# Altium footprint library MicroSMD_50P_V.PcbLib: 85 footprints (part 5 of 7)
Each footprint in its own frame and in the unit in brackets; x right, y up, seen from the top. Pads: shape width x height; smd on the part's side, far side on the other; paste and mask are expansions set on the pad; w line width, h text height; cw(c..) or ccw(c..) is an arc to the next point about the centre after c.
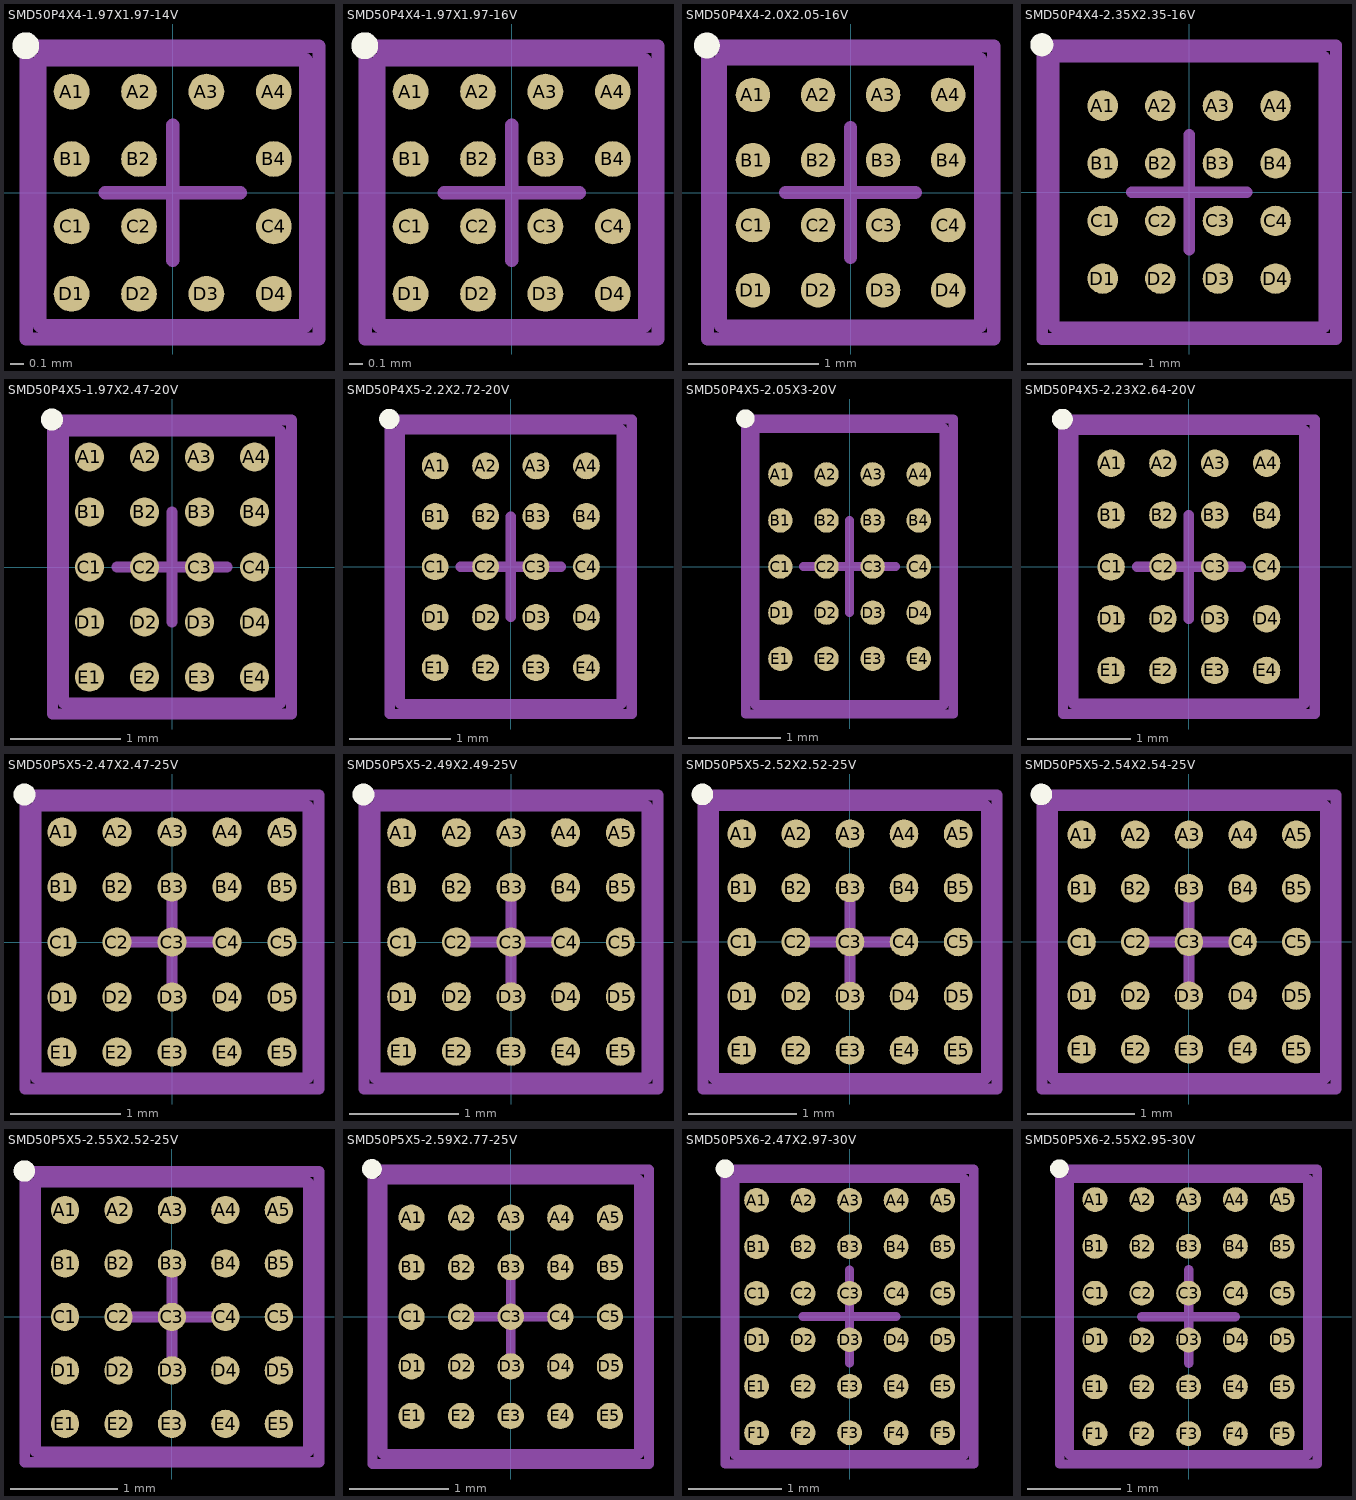
[diagram p4: the footprints below, top view; thin cyan lines are the x and y axes]

## SMD50P4X4-1.97X1.97-14V [mm] "Micro SMD, 14-Leads, Body 1.97x1.97mm, Pitch 0.5mm, NSC Recommended"
height 0.68
pads (14):
  round 0.265 smd paste-0.132 mask+0.05: A1(-0.75,0.75) A2(-0.25,0.75) A3(0.25,0.75) A4(0.75,0.75) B1(-0.75,0.25) B2(-0.25,0.25) B4(0.75,0.25) C1(-0.75,-0.25) C2(-0.25,-0.25) C4(0.75,-0.25) D1(-0.75,-0.75) D2(-0.25,-0.75) D3(0.25,-0.75) D4(0.75,-0.75)
Top Overlay:
  circle w0.1: c-1.09,1.09 r0.05
Top Paste:
  circle w0.05: c-0.175,-0.175 r0.025
  circle w0.05: c-0.325,-0.325 r0.025
  circle w0.05: c-0.325,-0.175 r0.025
  circle w0.05: c-0.175,-0.325 r0.025
  circle w0.05: c-0.175,0.325 r0.025
  circle w0.05: c-0.325,0.175 r0.025
  circle w0.05: c-0.325,0.325 r0.025
  circle w0.05: c-0.175,0.175 r0.025
  circle w0.05: c0.325,-0.85 r0.025
  circle w0.05: c0.175,-0.7 r0.025
  circle w0.05: c0.175,-0.85 r0.025
  circle w0.05: c0.325,-0.7 r0.025
  circle w0.05: c-0.175,-0.85 r0.025
  circle w0.05: c-0.325,-0.7 r0.025
  circle w0.05: c-0.325,-0.85 r0.025
  circle w0.05: c-0.175,-0.7 r0.025
  circle w0.05: c-0.85,-0.325 r0.025
  circle w0.05: c-0.7,-0.175 r0.025
  circle w0.05: c-0.85,-0.175 r0.025
  circle w0.05: c-0.7,-0.325 r0.025
  circle w0.05: c-0.85,0.175 r0.025
  circle w0.05: c-0.7,0.325 r0.025
  circle w0.05: c-0.85,0.325 r0.025
  circle w0.05: c-0.7,0.175 r0.025
  circle w0.05: c-0.325,0.85 r0.025
  circle w0.05: c-0.175,0.7 r0.025
  circle w0.05: c-0.175,0.85 r0.025
  circle w0.05: c-0.325,0.7 r0.025
  circle w0.05: c0.175,0.85 r0.025
  circle w0.05: c0.325,0.7 r0.025
  circle w0.05: c0.325,0.85 r0.025
  circle w0.05: c0.175,0.7 r0.025
  circle w0.05: c0.85,0.325 r0.025
  circle w0.05: c0.7,0.175 r0.025
  circle w0.05: c0.85,0.175 r0.025
  circle w0.05: c0.7,0.325 r0.025
  circle w0.05: c0.85,-0.175 r0.025
  circle w0.05: c0.7,-0.325 r0.025
  circle w0.05: c0.85,-0.325 r0.025
  circle w0.05: c0.7,-0.175 r0.025
  circle w0.05: c-0.7,0.7 r0.025
  circle w0.05: c-0.85,0.85 r0.025
  circle w0.05: c-0.7,0.85 r0.025
  circle w0.05: c-0.85,0.7 r0.025
  circle w0.05: c-0.7,-0.7 r0.025
  circle w0.05: c-0.85,-0.85 r0.025
  circle w0.05: c-0.85,-0.7 r0.025
  circle w0.05: c-0.7,-0.85 r0.025
  circle w0.05: c0.7,-0.7 r0.025
  circle w0.05: c0.85,-0.85 r0.025
  circle w0.05: c0.7,-0.85 r0.025
  circle w0.05: c0.85,-0.7 r0.025
  circle w0.05: c0.7,0.7 r0.025
  circle w0.05: c0.85,0.85 r0.025
  circle w0.05: c0.85,0.7 r0.025
  circle w0.05: c0.7,0.85 r0.025
  rectangle: -0.325,-0.375 -0.175,-0.325
  region: -0.375,-0.175 -0.375,-0.325 -0.325,-0.325 -0.325,-0.175
  region: -0.175,-0.125 -0.325,-0.125 -0.325,-0.175 -0.175,-0.175
  region: -0.125,-0.325 -0.125,-0.175 -0.175,-0.175 -0.175,-0.325
  region: -0.325,-0.175 -0.325,-0.325 -0.175,-0.325 -0.175,-0.175
  rectangle: -0.325,0.125 -0.175,0.175
  region: -0.375,0.325 -0.375,0.175 -0.325,0.175 -0.325,0.325
  region: -0.175,0.375 -0.325,0.375 -0.325,0.325 -0.175,0.325
  region: -0.125,0.175 -0.125,0.325 -0.175,0.325 -0.175,0.175
  region: -0.325,0.325 -0.325,0.175 -0.175,0.175 -0.175,0.325
  rectangle: 0.175,-0.7 0.325,-0.65
  region: 0.175,-0.85 0.175,-0.7 0.125,-0.7 0.125,-0.85
  region: 0.325,-0.85 0.175,-0.85 0.175,-0.9 0.325,-0.9
  region: 0.325,-0.7 0.325,-0.85 0.375,-0.85 0.375,-0.7
  region: 0.325,-0.85 0.325,-0.7 0.175,-0.7 0.175,-0.85
  rectangle: -0.325,-0.7 -0.175,-0.65
  region: -0.325,-0.85 -0.325,-0.7 -0.375,-0.7 -0.375,-0.85
  region: -0.175,-0.85 -0.325,-0.85 -0.325,-0.9 -0.175,-0.9
  region: -0.175,-0.7 -0.175,-0.85 -0.125,-0.85 -0.125,-0.7
  region: -0.175,-0.85 -0.175,-0.7 -0.325,-0.7 -0.325,-0.85
  region: -0.7,-0.175 -0.7,-0.325 -0.65,-0.325 -0.65,-0.175
  rectangle: -0.85,-0.175 -0.7,-0.125
  region: -0.85,-0.325 -0.85,-0.175 -0.9,-0.175 -0.9,-0.325
  region: -0.7,-0.325 -0.85,-0.325 -0.85,-0.375 -0.7,-0.375
  rectangle: -0.85,-0.325 -0.7,-0.175
  region: -0.7,0.325 -0.7,0.175 -0.65,0.175 -0.65,0.325
  rectangle: -0.85,0.325 -0.7,0.375
  region: -0.85,0.175 -0.85,0.325 -0.9,0.325 -0.9,0.175
  region: -0.7,0.175 -0.85,0.175 -0.85,0.125 -0.7,0.125
  rectangle: -0.85,0.175 -0.7,0.325
  region: -0.175,0.7 -0.325,0.7 -0.325,0.65 -0.175,0.65
  region: -0.175,0.85 -0.175,0.7 -0.125,0.7 -0.125,0.85
  rectangle: -0.325,0.85 -0.175,0.9
  region: -0.325,0.7 -0.325,0.85 -0.375,0.85 -0.375,0.7
  region: -0.325,0.85 -0.325,0.7 -0.175,0.7 -0.175,0.85
  region: 0.325,0.7 0.175,0.7 0.175,0.65 0.325,0.65
  region: 0.325,0.85 0.325,0.7 0.375,0.7 0.375,0.85
  rectangle: 0.175,0.85 0.325,0.9
  region: 0.175,0.7 0.175,0.85 0.125,0.85 0.125,0.7
  region: 0.175,0.85 0.175,0.7 0.325,0.7 0.325,0.85
  region: 0.7,0.175 0.7,0.325 0.65,0.325 0.65,0.175
  region: 0.85,0.175 0.7,0.175 0.7,0.125 0.85,0.125
  region: 0.85,0.325 0.85,0.175 0.9,0.175 0.9,0.325
  rectangle: 0.7,0.325 0.85,0.375
  region: 0.85,0.325 0.7,0.325 0.7,0.175 0.85,0.175
  region: 0.7,-0.325 0.7,-0.175 0.65,-0.175 0.65,-0.325
  region: 0.85,-0.325 0.7,-0.325 0.7,-0.375 0.85,-0.375
  region: 0.85,-0.175 0.85,-0.325 0.9,-0.325 0.9,-0.175
  rectangle: 0.7,-0.175 0.85,-0.125
  region: 0.85,-0.175 0.7,-0.175 0.7,-0.325 0.85,-0.325
  rectangle: -0.85,0.7 -0.7,0.85
  region: -0.7,0.7 -0.85,0.7 -0.85,0.65 -0.7,0.65
  region: -0.85,0.7 -0.85,0.85 -0.9,0.85 -0.9,0.7
  rectangle: -0.85,0.85 -0.7,0.9
  region: -0.7,0.85 -0.7,0.7 -0.65,0.7 -0.65,0.85
  region: -0.7,-0.85 -0.7,-0.7 -0.85,-0.7 -0.85,-0.85
  region: -0.7,-0.7 -0.7,-0.85 -0.65,-0.85 -0.65,-0.7
  region: -0.7,-0.85 -0.85,-0.85 -0.85,-0.9 -0.7,-0.9
  region: -0.85,-0.85 -0.85,-0.7 -0.9,-0.7 -0.9,-0.85
  rectangle: -0.85,-0.7 -0.7,-0.65
  region: 0.85,-0.7 0.7,-0.7 0.7,-0.85 0.85,-0.85
  rectangle: 0.7,-0.7 0.85,-0.65
  region: 0.85,-0.7 0.85,-0.85 0.9,-0.85 0.9,-0.7
  region: 0.85,-0.85 0.7,-0.85 0.7,-0.9 0.85,-0.9
  region: 0.7,-0.85 0.7,-0.7 0.65,-0.7 0.65,-0.85
  region: 0.7,0.85 0.7,0.7 0.85,0.7 0.85,0.85
  region: 0.7,0.7 0.7,0.85 0.65,0.85 0.65,0.7
  rectangle: 0.7,0.85 0.85,0.9
  region: 0.85,0.85 0.85,0.7 0.9,0.7 0.9,0.85
  region: 0.85,0.7 0.7,0.7 0.7,0.65 0.85,0.65
Mechanical 13:
  lines w0.1: -0.985,-0.985 -0.985,0.985 0.985,0.985 0.985,-0.985 -0.985,-0.985
Mechanical 15:
  lines w0.1: -0.5,0 0.5,0 ; 0,-0.5 0,0.5 ; -1.085,-1.085 -1.085,1.085 1.085,1.085 1.085,-1.085 -1.085,-1.085
3D body: height 0.68, standoff 0, extent -0.984,-0.984 0.984,0.984

## SMD50P4X4-1.97X1.97-16V [mm] "Micro SMD, 16-Leads, Body 1.97x1.97mm, Pitch 0.5mm, NSC Recommended"
height 0.68
pads (16):
  round 0.265 smd paste-0.132 mask+0.05: A1(-0.75,0.75) A2(-0.25,0.75) A3(0.25,0.75) A4(0.75,0.75) B1(-0.75,0.25) B2(-0.25,0.25) B3(0.25,0.25) B4(0.75,0.25) C1(-0.75,-0.25) C2(-0.25,-0.25) C3(0.25,-0.25) C4(0.75,-0.25) D1(-0.75,-0.75) D2(-0.25,-0.75) D3(0.25,-0.75) D4(0.75,-0.75)
Top Overlay:
  circle w0.1: c-1.09,1.09 r0.05
Top Paste:
  circle w0.05: c0.85,-0.7 r0.025
  circle w0.05: c0.7,-0.85 r0.025
  circle w0.05: c0.85,-0.85 r0.025
  circle w0.05: c0.7,-0.7 r0.025
  circle w0.05: c-0.7,-0.85 r0.025
  circle w0.05: c-0.85,-0.7 r0.025
  circle w0.05: c-0.85,-0.85 r0.025
  circle w0.05: c-0.7,-0.7 r0.025
  circle w0.05: c-0.85,0.7 r0.025
  circle w0.05: c-0.7,0.85 r0.025
  circle w0.05: c-0.85,0.85 r0.025
  circle w0.05: c-0.7,0.7 r0.025
  circle w0.05: c0.7,0.85 r0.025
  circle w0.05: c0.85,0.7 r0.025
  circle w0.05: c0.85,0.85 r0.025
  circle w0.05: c0.7,0.7 r0.025
  circle w0.05: c-0.175,-0.7 r0.025
  circle w0.05: c-0.325,-0.85 r0.025
  circle w0.05: c-0.325,-0.7 r0.025
  circle w0.05: c-0.175,-0.85 r0.025
  circle w0.05: c0.325,-0.7 r0.025
  circle w0.05: c0.175,-0.85 r0.025
  circle w0.05: c0.175,-0.7 r0.025
  circle w0.05: c0.325,-0.85 r0.025
  circle w0.05: c0.7,-0.175 r0.025
  circle w0.05: c0.85,-0.325 r0.025
  circle w0.05: c0.7,-0.325 r0.025
  circle w0.05: c0.85,-0.175 r0.025
  circle w0.05: c0.7,0.325 r0.025
  circle w0.05: c0.85,0.175 r0.025
  circle w0.05: c0.7,0.175 r0.025
  circle w0.05: c0.85,0.325 r0.025
  circle w0.05: c0.175,0.7 r0.025
  circle w0.05: c0.325,0.85 r0.025
  circle w0.05: c0.325,0.7 r0.025
  circle w0.05: c0.175,0.85 r0.025
  circle w0.05: c-0.325,0.7 r0.025
  circle w0.05: c-0.175,0.85 r0.025
  circle w0.05: c-0.175,0.7 r0.025
  circle w0.05: c-0.325,0.85 r0.025
  circle w0.05: c-0.7,0.175 r0.025
  circle w0.05: c-0.85,0.325 r0.025
  circle w0.05: c-0.7,0.325 r0.025
  circle w0.05: c-0.85,0.175 r0.025
  circle w0.05: c-0.7,-0.325 r0.025
  circle w0.05: c-0.85,-0.175 r0.025
  circle w0.05: c-0.7,-0.175 r0.025
  circle w0.05: c-0.85,-0.325 r0.025
  circle w0.05: c-0.175,0.175 r0.025
  circle w0.05: c-0.325,0.325 r0.025
  circle w0.05: c-0.325,0.175 r0.025
  circle w0.05: c-0.175,0.325 r0.025
  circle w0.05: c-0.175,-0.325 r0.025
  circle w0.05: c-0.325,-0.175 r0.025
  circle w0.05: c-0.325,-0.325 r0.025
  circle w0.05: c-0.175,-0.175 r0.025
  circle w0.05: c0.325,-0.325 r0.025
  circle w0.05: c0.175,-0.175 r0.025
  circle w0.05: c0.175,-0.325 r0.025
  circle w0.05: c0.325,-0.175 r0.025
  circle w0.05: c0.325,0.175 r0.025
  circle w0.05: c0.175,0.325 r0.025
  circle w0.05: c0.175,0.175 r0.025
  circle w0.05: c0.325,0.325 r0.025
  region: 0.7,-0.85 0.7,-0.7 0.65,-0.7 0.65,-0.85
  region: 0.85,-0.85 0.7,-0.85 0.7,-0.9 0.85,-0.9
  region: 0.85,-0.7 0.85,-0.85 0.9,-0.85 0.9,-0.7
  rectangle: 0.7,-0.7 0.85,-0.65
  region: 0.85,-0.7 0.7,-0.7 0.7,-0.85 0.85,-0.85
  rectangle: -0.85,-0.7 -0.7,-0.65
  region: -0.85,-0.85 -0.85,-0.7 -0.9,-0.7 -0.9,-0.85
  region: -0.7,-0.85 -0.85,-0.85 -0.85,-0.9 -0.7,-0.9
  region: -0.7,-0.7 -0.7,-0.85 -0.65,-0.85 -0.65,-0.7
  region: -0.7,-0.85 -0.7,-0.7 -0.85,-0.7 -0.85,-0.85
  region: -0.7,0.85 -0.7,0.7 -0.65,0.7 -0.65,0.85
  rectangle: -0.85,0.85 -0.7,0.9
  region: -0.85,0.7 -0.85,0.85 -0.9,0.85 -0.9,0.7
  region: -0.7,0.7 -0.85,0.7 -0.85,0.65 -0.7,0.65
  rectangle: -0.85,0.7 -0.7,0.85
  region: 0.85,0.7 0.7,0.7 0.7,0.65 0.85,0.65
  region: 0.85,0.85 0.85,0.7 0.9,0.7 0.9,0.85
  rectangle: 0.7,0.85 0.85,0.9
  region: 0.7,0.7 0.7,0.85 0.65,0.85 0.65,0.7
  region: 0.7,0.85 0.7,0.7 0.85,0.7 0.85,0.85
  region: -0.175,-0.85 -0.175,-0.7 -0.325,-0.7 -0.325,-0.85
  region: -0.175,-0.7 -0.175,-0.85 -0.125,-0.85 -0.125,-0.7
  region: -0.175,-0.85 -0.325,-0.85 -0.325,-0.9 -0.175,-0.9
  region: -0.325,-0.85 -0.325,-0.7 -0.375,-0.7 -0.375,-0.85
  rectangle: -0.325,-0.7 -0.175,-0.65
  region: 0.325,-0.85 0.325,-0.7 0.175,-0.7 0.175,-0.85
  region: 0.325,-0.7 0.325,-0.85 0.375,-0.85 0.375,-0.7
  region: 0.325,-0.85 0.175,-0.85 0.175,-0.9 0.325,-0.9
  region: 0.175,-0.85 0.175,-0.7 0.125,-0.7 0.125,-0.85
  rectangle: 0.175,-0.7 0.325,-0.65
  region: 0.85,-0.175 0.7,-0.175 0.7,-0.325 0.85,-0.325
  rectangle: 0.7,-0.175 0.85,-0.125
  region: 0.85,-0.175 0.85,-0.325 0.9,-0.325 0.9,-0.175
  region: 0.85,-0.325 0.7,-0.325 0.7,-0.375 0.85,-0.375
  region: 0.7,-0.325 0.7,-0.175 0.65,-0.175 0.65,-0.325
  region: 0.85,0.325 0.7,0.325 0.7,0.175 0.85,0.175
  rectangle: 0.7,0.325 0.85,0.375
  region: 0.85,0.325 0.85,0.175 0.9,0.175 0.9,0.325
  region: 0.85,0.175 0.7,0.175 0.7,0.125 0.85,0.125
  region: 0.7,0.175 0.7,0.325 0.65,0.325 0.65,0.175
  region: 0.175,0.85 0.175,0.7 0.325,0.7 0.325,0.85
  region: 0.175,0.7 0.175,0.85 0.125,0.85 0.125,0.7
  rectangle: 0.175,0.85 0.325,0.9
  region: 0.325,0.85 0.325,0.7 0.375,0.7 0.375,0.85
  region: 0.325,0.7 0.175,0.7 0.175,0.65 0.325,0.65
  region: -0.325,0.85 -0.325,0.7 -0.175,0.7 -0.175,0.85
  region: -0.325,0.7 -0.325,0.85 -0.375,0.85 -0.375,0.7
  rectangle: -0.325,0.85 -0.175,0.9
  region: -0.175,0.85 -0.175,0.7 -0.125,0.7 -0.125,0.85
  region: -0.175,0.7 -0.325,0.7 -0.325,0.65 -0.175,0.65
  rectangle: -0.85,0.175 -0.7,0.325
  region: -0.7,0.175 -0.85,0.175 -0.85,0.125 -0.7,0.125
  region: -0.85,0.175 -0.85,0.325 -0.9,0.325 -0.9,0.175
  rectangle: -0.85,0.325 -0.7,0.375
  region: -0.7,0.325 -0.7,0.175 -0.65,0.175 -0.65,0.325
  rectangle: -0.85,-0.325 -0.7,-0.175
  region: -0.7,-0.325 -0.85,-0.325 -0.85,-0.375 -0.7,-0.375
  region: -0.85,-0.325 -0.85,-0.175 -0.9,-0.175 -0.9,-0.325
  rectangle: -0.85,-0.175 -0.7,-0.125
  region: -0.7,-0.175 -0.7,-0.325 -0.65,-0.325 -0.65,-0.175
  region: -0.325,0.325 -0.325,0.175 -0.175,0.175 -0.175,0.325
  region: -0.125,0.175 -0.125,0.325 -0.175,0.325 -0.175,0.175
  region: -0.175,0.375 -0.325,0.375 -0.325,0.325 -0.175,0.325
  region: -0.375,0.325 -0.375,0.175 -0.325,0.175 -0.325,0.325
  rectangle: -0.325,0.125 -0.175,0.175
  region: -0.325,-0.175 -0.325,-0.325 -0.175,-0.325 -0.175,-0.175
  region: -0.125,-0.325 -0.125,-0.175 -0.175,-0.175 -0.175,-0.325
  region: -0.175,-0.125 -0.325,-0.125 -0.325,-0.175 -0.175,-0.175
  region: -0.375,-0.175 -0.375,-0.325 -0.325,-0.325 -0.325,-0.175
  rectangle: -0.325,-0.375 -0.175,-0.325
  region: 0.175,-0.175 0.175,-0.325 0.325,-0.325 0.325,-0.175
  region: 0.375,-0.325 0.375,-0.175 0.325,-0.175 0.325,-0.325
  region: 0.325,-0.125 0.175,-0.125 0.175,-0.175 0.325,-0.175
  region: 0.125,-0.175 0.125,-0.325 0.175,-0.325 0.175,-0.175
  rectangle: 0.175,-0.375 0.325,-0.325
  region: 0.175,0.325 0.175,0.175 0.325,0.175 0.325,0.325
  region: 0.375,0.175 0.375,0.325 0.325,0.325 0.325,0.175
  region: 0.325,0.375 0.175,0.375 0.175,0.325 0.325,0.325
  region: 0.125,0.325 0.125,0.175 0.175,0.175 0.175,0.325
  rectangle: 0.175,0.125 0.325,0.175
Mechanical 13:
  lines w0.1: -0.985,-0.985 -0.985,0.985 0.985,0.985 0.985,-0.985 -0.985,-0.985
Mechanical 15:
  lines w0.1: -0.5,0 0.5,0 ; 0,-0.5 0,0.5 ; -1.085,-1.085 -1.085,1.085 1.085,1.085 1.085,-1.085 -1.085,-1.085
3D body: height 0.68, standoff 0, extent -0.984,-0.984 0.984,0.984

## SMD50P4X4-2.0X2.05-16V [mm] "Micro SMD, 16-Leads, Body 2.05x2.0mm, Pitch 0.5mm, NSC Recommended"
height 0.68
pads (16):
  round 0.265 smd paste-0.132 mask+0.05: A1(-0.75,0.75) A2(-0.25,0.75) A3(0.25,0.75) A4(0.75,0.75) B1(-0.75,0.25) B2(-0.25,0.25) B3(0.25,0.25) B4(0.75,0.25) C1(-0.75,-0.25) C2(-0.25,-0.25) C3(0.25,-0.25) C4(0.75,-0.25) D1(-0.75,-0.75) D2(-0.25,-0.75) D3(0.25,-0.75) D4(0.75,-0.75)
Top Overlay:
  circle w0.1: c-1.105,1.13 r0.05
Top Paste:
  circle w0.05: c-0.7,-0.85 r0.025
  circle w0.05: c-0.85,-0.7 r0.025
  circle w0.05: c-0.85,-0.85 r0.025
  circle w0.05: c-0.7,-0.7 r0.025
  circle w0.05: c-0.85,0.7 r0.025
  circle w0.05: c-0.7,0.85 r0.025
  circle w0.05: c-0.85,0.85 r0.025
  circle w0.05: c-0.7,0.7 r0.025
  circle w0.05: c0.7,0.85 r0.025
  circle w0.05: c0.85,0.7 r0.025
  circle w0.05: c0.85,0.85 r0.025
  circle w0.05: c0.7,0.7 r0.025
  circle w0.05: c0.85,-0.7 r0.025
  circle w0.05: c0.7,-0.85 r0.025
  circle w0.05: c0.85,-0.85 r0.025
  circle w0.05: c0.7,-0.7 r0.025
  circle w0.05: c-0.7,0.175 r0.025
  circle w0.05: c-0.85,0.325 r0.025
  circle w0.05: c-0.7,0.325 r0.025
  circle w0.05: c-0.85,0.175 r0.025
  circle w0.05: c-0.7,-0.325 r0.025
  circle w0.05: c-0.85,-0.175 r0.025
  circle w0.05: c-0.7,-0.175 r0.025
  circle w0.05: c-0.85,-0.325 r0.025
  circle w0.05: c-0.175,-0.7 r0.025
  circle w0.05: c-0.325,-0.85 r0.025
  circle w0.05: c-0.325,-0.7 r0.025
  circle w0.05: c-0.175,-0.85 r0.025
  circle w0.05: c0.325,-0.7 r0.025
  circle w0.05: c0.175,-0.85 r0.025
  circle w0.05: c0.175,-0.7 r0.025
  circle w0.05: c0.325,-0.85 r0.025
  circle w0.05: c0.7,-0.175 r0.025
  circle w0.05: c0.85,-0.325 r0.025
  circle w0.05: c0.7,-0.325 r0.025
  circle w0.05: c0.85,-0.175 r0.025
  circle w0.05: c0.7,0.325 r0.025
  circle w0.05: c0.85,0.175 r0.025
  circle w0.05: c0.7,0.175 r0.025
  circle w0.05: c0.85,0.325 r0.025
  circle w0.05: c0.175,0.7 r0.025
  circle w0.05: c0.325,0.85 r0.025
  circle w0.05: c0.325,0.7 r0.025
  circle w0.05: c0.175,0.85 r0.025
  circle w0.05: c-0.325,0.7 r0.025
  circle w0.05: c-0.175,0.85 r0.025
  circle w0.05: c-0.175,0.7 r0.025
  circle w0.05: c-0.325,0.85 r0.025
  circle w0.05: c-0.175,0.175 r0.025
  circle w0.05: c-0.325,0.325 r0.025
  circle w0.05: c-0.325,0.175 r0.025
  circle w0.05: c-0.175,0.325 r0.025
  circle w0.05: c-0.175,-0.325 r0.025
  circle w0.05: c-0.325,-0.175 r0.025
  circle w0.05: c-0.325,-0.325 r0.025
  circle w0.05: c-0.175,-0.175 r0.025
  circle w0.05: c0.325,-0.325 r0.025
  circle w0.05: c0.175,-0.175 r0.025
  circle w0.05: c0.175,-0.325 r0.025
  circle w0.05: c0.325,-0.175 r0.025
  circle w0.05: c0.325,0.175 r0.025
  circle w0.05: c0.175,0.325 r0.025
  circle w0.05: c0.175,0.175 r0.025
  circle w0.05: c0.325,0.325 r0.025
  rectangle: -0.85,-0.7 -0.7,-0.65
  region: -0.85,-0.85 -0.85,-0.7 -0.9,-0.7 -0.9,-0.85
  region: -0.7,-0.85 -0.85,-0.85 -0.85,-0.9 -0.7,-0.9
  region: -0.7,-0.7 -0.7,-0.85 -0.65,-0.85 -0.65,-0.7
  region: -0.7,-0.85 -0.7,-0.7 -0.85,-0.7 -0.85,-0.85
  region: -0.7,0.85 -0.7,0.7 -0.65,0.7 -0.65,0.85
  rectangle: -0.85,0.85 -0.7,0.9
  region: -0.85,0.7 -0.85,0.85 -0.9,0.85 -0.9,0.7
  region: -0.7,0.7 -0.85,0.7 -0.85,0.65 -0.7,0.65
  rectangle: -0.85,0.7 -0.7,0.85
  region: 0.85,0.7 0.7,0.7 0.7,0.65 0.85,0.65
  region: 0.85,0.85 0.85,0.7 0.9,0.7 0.9,0.85
  rectangle: 0.7,0.85 0.85,0.9
  region: 0.7,0.7 0.7,0.85 0.65,0.85 0.65,0.7
  region: 0.7,0.85 0.7,0.7 0.85,0.7 0.85,0.85
  region: 0.7,-0.85 0.7,-0.7 0.65,-0.7 0.65,-0.85
  region: 0.85,-0.85 0.7,-0.85 0.7,-0.9 0.85,-0.9
  region: 0.85,-0.7 0.85,-0.85 0.9,-0.85 0.9,-0.7
  rectangle: 0.7,-0.7 0.85,-0.65
  region: 0.85,-0.7 0.7,-0.7 0.7,-0.85 0.85,-0.85
  rectangle: -0.85,0.175 -0.7,0.325
  region: -0.7,0.175 -0.85,0.175 -0.85,0.125 -0.7,0.125
  region: -0.85,0.175 -0.85,0.325 -0.9,0.325 -0.9,0.175
  rectangle: -0.85,0.325 -0.7,0.375
  region: -0.7,0.325 -0.7,0.175 -0.65,0.175 -0.65,0.325
  rectangle: -0.85,-0.325 -0.7,-0.175
  region: -0.7,-0.325 -0.85,-0.325 -0.85,-0.375 -0.7,-0.375
  region: -0.85,-0.325 -0.85,-0.175 -0.9,-0.175 -0.9,-0.325
  rectangle: -0.85,-0.175 -0.7,-0.125
  region: -0.7,-0.175 -0.7,-0.325 -0.65,-0.325 -0.65,-0.175
  region: -0.175,-0.85 -0.175,-0.7 -0.325,-0.7 -0.325,-0.85
  region: -0.175,-0.7 -0.175,-0.85 -0.125,-0.85 -0.125,-0.7
  region: -0.175,-0.85 -0.325,-0.85 -0.325,-0.9 -0.175,-0.9
  region: -0.325,-0.85 -0.325,-0.7 -0.375,-0.7 -0.375,-0.85
  rectangle: -0.325,-0.7 -0.175,-0.65
  region: 0.325,-0.85 0.325,-0.7 0.175,-0.7 0.175,-0.85
  region: 0.325,-0.7 0.325,-0.85 0.375,-0.85 0.375,-0.7
  region: 0.325,-0.85 0.175,-0.85 0.175,-0.9 0.325,-0.9
  region: 0.175,-0.85 0.175,-0.7 0.125,-0.7 0.125,-0.85
  rectangle: 0.175,-0.7 0.325,-0.65
  region: 0.85,-0.175 0.7,-0.175 0.7,-0.325 0.85,-0.325
  rectangle: 0.7,-0.175 0.85,-0.125
  region: 0.85,-0.175 0.85,-0.325 0.9,-0.325 0.9,-0.175
  region: 0.85,-0.325 0.7,-0.325 0.7,-0.375 0.85,-0.375
  region: 0.7,-0.325 0.7,-0.175 0.65,-0.175 0.65,-0.325
  region: 0.85,0.325 0.7,0.325 0.7,0.175 0.85,0.175
  rectangle: 0.7,0.325 0.85,0.375
  region: 0.85,0.325 0.85,0.175 0.9,0.175 0.9,0.325
  region: 0.85,0.175 0.7,0.175 0.7,0.125 0.85,0.125
  region: 0.7,0.175 0.7,0.325 0.65,0.325 0.65,0.175
  region: 0.175,0.85 0.175,0.7 0.325,0.7 0.325,0.85
  region: 0.175,0.7 0.175,0.85 0.125,0.85 0.125,0.7
  rectangle: 0.175,0.85 0.325,0.9
  region: 0.325,0.85 0.325,0.7 0.375,0.7 0.375,0.85
  region: 0.325,0.7 0.175,0.7 0.175,0.65 0.325,0.65
  region: -0.325,0.85 -0.325,0.7 -0.175,0.7 -0.175,0.85
  region: -0.325,0.7 -0.325,0.85 -0.375,0.85 -0.375,0.7
  rectangle: -0.325,0.85 -0.175,0.9
  region: -0.175,0.85 -0.175,0.7 -0.125,0.7 -0.125,0.85
  region: -0.175,0.7 -0.325,0.7 -0.325,0.65 -0.175,0.65
  region: -0.325,0.325 -0.325,0.175 -0.175,0.175 -0.175,0.325
  region: -0.125,0.175 -0.125,0.325 -0.175,0.325 -0.175,0.175
  region: -0.175,0.375 -0.325,0.375 -0.325,0.325 -0.175,0.325
  region: -0.375,0.325 -0.375,0.175 -0.325,0.175 -0.325,0.325
  rectangle: -0.325,0.125 -0.175,0.175
  region: -0.325,-0.175 -0.325,-0.325 -0.175,-0.325 -0.175,-0.175
  region: -0.125,-0.325 -0.125,-0.175 -0.175,-0.175 -0.175,-0.325
  region: -0.175,-0.125 -0.325,-0.125 -0.325,-0.175 -0.175,-0.175
  region: -0.375,-0.175 -0.375,-0.325 -0.325,-0.325 -0.325,-0.175
  rectangle: -0.325,-0.375 -0.175,-0.325
  region: 0.175,-0.175 0.175,-0.325 0.325,-0.325 0.325,-0.175
  region: 0.375,-0.325 0.375,-0.175 0.325,-0.175 0.325,-0.325
  region: 0.325,-0.125 0.175,-0.125 0.175,-0.175 0.325,-0.175
  region: 0.125,-0.175 0.125,-0.325 0.175,-0.325 0.175,-0.175
  rectangle: 0.175,-0.375 0.325,-0.325
  region: 0.175,0.325 0.175,0.175 0.325,0.175 0.325,0.325
  region: 0.375,0.175 0.375,0.325 0.325,0.325 0.325,0.175
  region: 0.325,0.375 0.175,0.375 0.175,0.325 0.325,0.325
  region: 0.125,0.325 0.125,0.175 0.175,0.175 0.175,0.325
  rectangle: 0.175,0.125 0.325,0.175
Mechanical 13:
  lines w0.1: -1,-1.025 -1,1.025 1,1.025 1,-1.025 -1,-1.025
Mechanical 15:
  lines w0.1: -0.5,0 0.5,0 ; 0,-0.5 0,0.5 ; -1.1,-1.125 -1.1,1.125 1.1,1.125 1.1,-1.125 -1.1,-1.125
3D body: height 0.68, standoff 0, extent -0.999,-1.024 0.999,1.024

## SMD50P4X4-2.35X2.35-16V [mm] "Micro SMD, 16-Leads, Body 2.35x2.35mm, Pitch 0.5mm, NSC Recommended"
height 0.68
pads (16):
  round 0.265 smd paste-0.132 mask+0.05: A1(-0.75,0.75) A2(-0.25,0.75) A3(0.25,0.75) A4(0.75,0.75) B1(-0.75,0.25) B2(-0.25,0.25) B3(0.25,0.25) B4(0.75,0.25) C1(-0.75,-0.25) C2(-0.25,-0.25) C3(0.25,-0.25) C4(0.75,-0.25) D1(-0.75,-0.75) D2(-0.25,-0.75) D3(0.25,-0.75) D4(0.75,-0.75)
Top Overlay:
  circle w0.1: c-1.28,1.28 r0.05
Top Paste:
  circle w0.05: c0.7,-0.7 r0.025
  circle w0.05: c0.85,-0.85 r0.025
  circle w0.05: c0.85,-0.7 r0.025
  circle w0.05: c0.7,-0.85 r0.025
  circle w0.05: c0.175,-0.7 r0.025
  circle w0.05: c0.325,-0.85 r0.025
  circle w0.05: c0.325,-0.7 r0.025
  circle w0.05: c0.175,-0.85 r0.025
  circle w0.05: c-0.325,-0.7 r0.025
  circle w0.05: c-0.175,-0.85 r0.025
  circle w0.05: c-0.175,-0.7 r0.025
  circle w0.05: c-0.325,-0.85 r0.025
  circle w0.05: c-0.85,-0.7 r0.025
  circle w0.05: c-0.7,-0.85 r0.025
  circle w0.05: c-0.7,-0.7 r0.025
  circle w0.05: c-0.85,-0.85 r0.025
  circle w0.05: c0.7,-0.175 r0.025
  circle w0.05: c0.85,-0.325 r0.025
  circle w0.05: c0.85,-0.175 r0.025
  circle w0.05: c0.7,-0.325 r0.025
  circle w0.05: c0.175,-0.175 r0.025
  circle w0.05: c0.325,-0.325 r0.025
  circle w0.05: c0.325,-0.175 r0.025
  circle w0.05: c0.175,-0.325 r0.025
  circle w0.05: c-0.325,-0.175 r0.025
  circle w0.05: c-0.175,-0.325 r0.025
  circle w0.05: c-0.175,-0.175 r0.025
  circle w0.05: c-0.325,-0.325 r0.025
  circle w0.05: c-0.85,-0.175 r0.025
  circle w0.05: c-0.7,-0.325 r0.025
  circle w0.05: c-0.7,-0.175 r0.025
  circle w0.05: c-0.85,-0.325 r0.025
  circle w0.05: c0.7,0.325 r0.025
  circle w0.05: c0.85,0.175 r0.025
  circle w0.05: c0.85,0.325 r0.025
  circle w0.05: c0.7,0.175 r0.025
  circle w0.05: c0.175,0.325 r0.025
  circle w0.05: c0.325,0.175 r0.025
  circle w0.05: c0.325,0.325 r0.025
  circle w0.05: c0.175,0.175 r0.025
  circle w0.05: c-0.325,0.325 r0.025
  circle w0.05: c-0.175,0.175 r0.025
  circle w0.05: c-0.175,0.325 r0.025
  circle w0.05: c-0.325,0.175 r0.025
  circle w0.05: c-0.85,0.325 r0.025
  circle w0.05: c-0.7,0.175 r0.025
  circle w0.05: c-0.7,0.325 r0.025
  circle w0.05: c-0.85,0.175 r0.025
  circle w0.05: c0.7,0.85 r0.025
  circle w0.05: c0.85,0.7 r0.025
  circle w0.05: c0.85,0.85 r0.025
  circle w0.05: c0.7,0.7 r0.025
  circle w0.05: c0.175,0.85 r0.025
  circle w0.05: c0.325,0.7 r0.025
  circle w0.05: c0.325,0.85 r0.025
  circle w0.05: c0.175,0.7 r0.025
  circle w0.05: c-0.325,0.85 r0.025
  circle w0.05: c-0.175,0.7 r0.025
  circle w0.05: c-0.175,0.85 r0.025
  circle w0.05: c-0.325,0.7 r0.025
  circle w0.05: c-0.85,0.85 r0.025
  circle w0.05: c-0.7,0.7 r0.025
  circle w0.05: c-0.7,0.85 r0.025
  circle w0.05: c-0.85,0.7 r0.025
  region: 0.85,-0.85 0.7,-0.85 0.7,-0.9 0.85,-0.9
  region: 0.85,-0.7 0.85,-0.85 0.9,-0.85 0.9,-0.7
  rectangle: 0.7,-0.7 0.85,-0.65
  region: 0.7,-0.85 0.7,-0.7 0.65,-0.7 0.65,-0.85
  region: 0.7,-0.7 0.7,-0.85 0.85,-0.85 0.85,-0.7
  region: 0.325,-0.85 0.175,-0.85 0.175,-0.9 0.325,-0.9
  region: 0.325,-0.7 0.325,-0.85 0.375,-0.85 0.375,-0.7
  rectangle: 0.175,-0.7 0.325,-0.65
  region: 0.175,-0.85 0.175,-0.7 0.125,-0.7 0.125,-0.85
  region: 0.175,-0.7 0.175,-0.85 0.325,-0.85 0.325,-0.7
  region: -0.175,-0.85 -0.325,-0.85 -0.325,-0.9 -0.175,-0.9
  region: -0.175,-0.7 -0.175,-0.85 -0.125,-0.85 -0.125,-0.7
  rectangle: -0.325,-0.7 -0.175,-0.65
  region: -0.325,-0.85 -0.325,-0.7 -0.375,-0.7 -0.375,-0.85
  region: -0.325,-0.7 -0.325,-0.85 -0.175,-0.85 -0.175,-0.7
  region: -0.7,-0.85 -0.85,-0.85 -0.85,-0.9 -0.7,-0.9
  region: -0.7,-0.7 -0.7,-0.85 -0.65,-0.85 -0.65,-0.7
  rectangle: -0.85,-0.7 -0.7,-0.65
  region: -0.85,-0.85 -0.85,-0.7 -0.9,-0.7 -0.9,-0.85
  region: -0.85,-0.7 -0.85,-0.85 -0.7,-0.85 -0.7,-0.7
  region: 0.85,-0.325 0.7,-0.325 0.7,-0.375 0.85,-0.375
  region: 0.85,-0.175 0.85,-0.325 0.9,-0.325 0.9,-0.175
  rectangle: 0.7,-0.175 0.85,-0.125
  region: 0.7,-0.325 0.7,-0.175 0.65,-0.175 0.65,-0.325
  region: 0.7,-0.175 0.7,-0.325 0.85,-0.325 0.85,-0.175
  region: 0.325,-0.325 0.175,-0.325 0.175,-0.375 0.325,-0.375
  region: 0.325,-0.175 0.325,-0.325 0.375,-0.325 0.375,-0.175
  rectangle: 0.175,-0.175 0.325,-0.125
  region: 0.175,-0.325 0.175,-0.175 0.125,-0.175 0.125,-0.325
  region: 0.175,-0.175 0.175,-0.325 0.325,-0.325 0.325,-0.175
  region: -0.175,-0.325 -0.325,-0.325 -0.325,-0.375 -0.175,-0.375
  region: -0.175,-0.175 -0.175,-0.325 -0.125,-0.325 -0.125,-0.175
  rectangle: -0.325,-0.175 -0.175,-0.125
  region: -0.325,-0.325 -0.325,-0.175 -0.375,-0.175 -0.375,-0.325
  region: -0.325,-0.175 -0.325,-0.325 -0.175,-0.325 -0.175,-0.175
  region: -0.7,-0.325 -0.85,-0.325 -0.85,-0.375 -0.7,-0.375
  region: -0.7,-0.175 -0.7,-0.325 -0.65,-0.325 -0.65,-0.175
  rectangle: -0.85,-0.175 -0.7,-0.125
  region: -0.85,-0.325 -0.85,-0.175 -0.9,-0.175 -0.9,-0.325
  region: -0.85,-0.175 -0.85,-0.325 -0.7,-0.325 -0.7,-0.175
  region: 0.85,0.175 0.7,0.175 0.7,0.125 0.85,0.125
  region: 0.85,0.325 0.85,0.175 0.9,0.175 0.9,0.325
  rectangle: 0.7,0.325 0.85,0.375
  region: 0.7,0.175 0.7,0.325 0.65,0.325 0.65,0.175
  region: 0.7,0.325 0.7,0.175 0.85,0.175 0.85,0.325
  region: 0.325,0.175 0.175,0.175 0.175,0.125 0.325,0.125
  region: 0.325,0.325 0.325,0.175 0.375,0.175 0.375,0.325
  rectangle: 0.175,0.325 0.325,0.375
  region: 0.175,0.175 0.175,0.325 0.125,0.325 0.125,0.175
  region: 0.175,0.325 0.175,0.175 0.325,0.175 0.325,0.325
  region: -0.175,0.175 -0.325,0.175 -0.325,0.125 -0.175,0.125
  region: -0.175,0.325 -0.175,0.175 -0.125,0.175 -0.125,0.325
  rectangle: -0.325,0.325 -0.175,0.375
  region: -0.325,0.175 -0.325,0.325 -0.375,0.325 -0.375,0.175
  region: -0.325,0.325 -0.325,0.175 -0.175,0.175 -0.175,0.325
  region: -0.7,0.175 -0.85,0.175 -0.85,0.125 -0.7,0.125
  region: -0.7,0.325 -0.7,0.175 -0.65,0.175 -0.65,0.325
  rectangle: -0.85,0.325 -0.7,0.375
  region: -0.85,0.175 -0.85,0.325 -0.9,0.325 -0.9,0.175
  region: -0.85,0.325 -0.85,0.175 -0.7,0.175 -0.7,0.325
  region: 0.85,0.7 0.7,0.7 0.7,0.65 0.85,0.65
  region: 0.85,0.85 0.85,0.7 0.9,0.7 0.9,0.85
  rectangle: 0.7,0.85 0.85,0.9
  region: 0.7,0.7 0.7,0.85 0.65,0.85 0.65,0.7
  region: 0.7,0.85 0.7,0.7 0.85,0.7 0.85,0.85
  region: 0.325,0.7 0.175,0.7 0.175,0.65 0.325,0.65
  region: 0.325,0.85 0.325,0.7 0.375,0.7 0.375,0.85
  rectangle: 0.175,0.85 0.325,0.9
  region: 0.175,0.7 0.175,0.85 0.125,0.85 0.125,0.7
  region: 0.175,0.85 0.175,0.7 0.325,0.7 0.325,0.85
  region: -0.175,0.7 -0.325,0.7 -0.325,0.65 -0.175,0.65
  region: -0.175,0.85 -0.175,0.7 -0.125,0.7 -0.125,0.85
  rectangle: -0.325,0.85 -0.175,0.9
  region: -0.325,0.7 -0.325,0.85 -0.375,0.85 -0.375,0.7
  region: -0.325,0.85 -0.325,0.7 -0.175,0.7 -0.175,0.85
  region: -0.7,0.7 -0.85,0.7 -0.85,0.65 -0.7,0.65
  region: -0.7,0.85 -0.7,0.7 -0.65,0.7 -0.65,0.85
  rectangle: -0.85,0.85 -0.7,0.9
  region: -0.85,0.7 -0.85,0.85 -0.9,0.85 -0.9,0.7
  region: -0.85,0.85 -0.85,0.7 -0.7,0.7 -0.7,0.85
Mechanical 13:
  lines w0.1: -1.175,-1.175 1.175,-1.175 1.175,1.175 -1.175,1.175 -1.175,-1.175
Mechanical 15:
  lines w0.1: -0.5,0 0.5,0 ; 0,-0.5 0,0.5 ; -1.275,-1.275 1.275,-1.275 1.275,1.275 -1.275,1.275 -1.275,-1.275
3D body: height 0.68, standoff 0, extent -1.175,-1.175 1.175,1.175

## SMD50P4X5-1.97X2.47-20V [mm] "Micro SMD, 20-Leads, Body 2.47x1.97mm, Pitch 0.5mm, NSC Recommended"
height 0.68
pads (20):
  round 0.265 smd paste-0.132 mask+0.05: A1(-0.75,1) A2(-0.25,1) A3(0.25,1) A4(0.75,1) B1(-0.75,0.5) B2(-0.25,0.5) B3(0.25,0.5) B4(0.75,0.5) C1(-0.75,0) C2(-0.25,0) C3(0.25,0) C4(0.75,0) D1(-0.75,-0.5) D2(-0.25,-0.5) D3(0.25,-0.5) D4(0.75,-0.5) E1(-0.75,-1) E2(-0.25,-1) E3(0.25,-1) E4(0.75,-1)
Top Overlay:
  circle w0.1: c-1.09,1.34 r0.05
Top Paste:
  drawing of 180 lines, arcs and shapes, not listed
Mechanical 13:
  lines w0.1: -0.985,-1.235 -0.985,1.235 0.985,1.235 0.985,-1.235 -0.985,-1.235
Mechanical 15:
  lines w0.1: -0.5,0 0.5,0 ; 0,-0.5 0,0.5 ; -1.085,-1.335 -1.085,1.335 1.085,1.335 1.085,-1.335 -1.085,-1.335
3D body: height 0.68, standoff 0, extent -0.984,-1.234 0.984,1.234

## SMD50P4X5-2.2X2.72-20V [mm] "Micro SMD, 20-Leads, Body 2.72x2.2mm, Pitch 0.5mm, NSC Recommended"
height 0.68
pads (20):
  round 0.265 smd paste-0.132 mask+0.05: A1(-0.75,1) A2(-0.25,1) A3(0.25,1) A4(0.75,1) B1(-0.75,0.5) B2(-0.25,0.5) B3(0.25,0.5) B4(0.75,0.5) C1(-0.75,0) C2(-0.25,0) C3(0.25,0) C4(0.75,0) D1(-0.75,-0.5) D2(-0.25,-0.5) D3(0.25,-0.5) D4(0.75,-0.5) E1(-0.75,-1) E2(-0.25,-1) E3(0.25,-1) E4(0.75,-1)
Top Overlay:
  circle w0.1: c-1.205,1.465 r0.05
Top Paste:
  drawing of 180 lines, arcs and shapes, not listed
Mechanical 13:
  lines w0.1: -1.1,-1.36 -1.1,1.36 1.1,1.36 1.1,-1.36 -1.1,-1.36
Mechanical 15:
  lines w0.1: -0.5,0 0.5,0 ; 0,-0.5 0,0.5 ; -1.2,-1.46 -1.2,1.46 1.2,1.46 1.2,-1.46 -1.2,-1.46
3D body: height 0.68, standoff 0, extent -1.099,-1.359 1.099,1.359

## SMD50P4X5-2.05X3-20V [mm] "Micro SMD, 20-Leads, Body 3x2.05mm, Pitch 0.5mm, NSC Recommended"
height 0.68
pads (20):
  round 0.265 smd paste-0.132 mask+0.05: A1(-0.75,1) A2(-0.25,1) A3(0.25,1) A4(0.75,1) B1(-0.75,0.5) B2(-0.25,0.5) B3(0.25,0.5) B4(0.75,0.5) C1(-0.75,0) C2(-0.25,0) C3(0.25,0) C4(0.75,0) D1(-0.75,-0.5) D2(-0.25,-0.5) D3(0.25,-0.5) D4(0.75,-0.5) E1(-0.75,-1) E2(-0.25,-1) E3(0.25,-1) E4(0.75,-1)
Top Overlay:
  circle w0.1: c-1.13,1.605 r0.05
Top Paste:
  drawing of 180 lines, arcs and shapes, not listed
Mechanical 13:
  lines w0.1: -1.025,-1.5 1.025,-1.5 1.025,1.5 -1.025,1.5 -1.025,-1.5
Mechanical 15:
  lines w0.1: -0.5,0 0.5,0 ; 0,-0.5 0,0.5 ; -1.125,-1.6 1.125,-1.6 1.125,1.6 -1.125,1.6 -1.125,-1.6
3D body: height 0.68, standoff 0, extent -1.025,-1.5 1.025,1.5

## SMD50P4X5-2.23X2.64-20V [mm] "Micro SMD, 20-Leads, Body 2.64x2.23mm, Pitch 0.5mm, NSC Recommended"
height 0.68
pads (20):
  round 0.265 smd paste-0.132 mask+0.05: A1(-0.75,1) A2(-0.25,1) A3(0.25,1) A4(0.75,1) B1(-0.75,0.5) B2(-0.25,0.5) B3(0.25,0.5) B4(0.75,0.5) C1(-0.75,0) C2(-0.25,0) C3(0.25,0) C4(0.75,0) D1(-0.75,-0.5) D2(-0.25,-0.5) D3(0.25,-0.5) D4(0.75,-0.5) E1(-0.75,-1) E2(-0.25,-1) E3(0.25,-1) E4(0.75,-1)
Top Overlay:
  circle w0.1: c-1.22,1.425 r0.05
Top Paste:
  drawing of 180 lines, arcs and shapes, not listed
Mechanical 13:
  lines w0.1: -1.115,-1.32 1.115,-1.32 1.115,1.32 -1.115,1.32 -1.115,-1.32
Mechanical 15:
  lines w0.1: -0.5,0 0.5,0 ; 0,-0.5 0,0.5 ; -1.215,-1.42 1.215,-1.42 1.215,1.42 -1.215,1.42 -1.215,-1.42
3D body: height 0.68, standoff 0, extent -1.115,-1.325 1.115,1.325

## SMD50P5X5-2.47X2.47-25V [mm] "Micro SMD, 25-Leads, Body 2.47x2.47mm, Pitch 0.5mm, NSC Recommended"
height 0.68
pads (25):
  round 0.265 smd paste-0.132 mask+0.05: A1(-1,1) A2(-0.5,1) A3(0,1) A4(0.5,1) A5(1,1) B1(-1,0.5) B2(-0.5,0.5) B3(0,0.5) B4(0.5,0.5) B5(1,0.5) C1(-1,0) C2(-0.5,0) C3(0,0) C4(0.5,0) C5(1,0) D1(-1,-0.5) D2(-0.5,-0.5) D3(0,-0.5) D4(0.5,-0.5) D5(1,-0.5) E1(-1,-1) E2(-0.5,-1) E3(0,-1) E4(0.5,-1) E5(1,-1)
Top Overlay:
  circle w0.1: c-1.34,1.34 r0.05
Top Paste:
  drawing of 225 lines, arcs and shapes, not listed
Mechanical 13:
  lines w0.1: -1.235,-1.235 -1.235,1.235 1.235,1.235 1.235,-1.235 -1.235,-1.235
Mechanical 15:
  lines w0.1: -0.5,0 0.5,0 ; 0,-0.5 0,0.5 ; -1.335,-1.335 -1.335,1.335 1.335,1.335 1.335,-1.335 -1.335,-1.335
3D body: height 0.68, standoff 0, extent -1.235,-1.235 1.235,1.235

## SMD50P5X5-2.49X2.49-25V [mm] "Micro SMD, 25-Leads, Body 2.49x2.49mm, Pitch 0.5mm, NSC Recommended"
height 0.68
pads (25):
  round 0.265 smd paste-0.132 mask+0.05: A1(-1,1) A2(-0.5,1) A3(0,1) A4(0.5,1) A5(1,1) B1(-1,0.5) B2(-0.5,0.5) B3(0,0.5) B4(0.5,0.5) B5(1,0.5) C1(-1,0) C2(-0.5,0) C3(0,0) C4(0.5,0) C5(1,0) D1(-1,-0.5) D2(-0.5,-0.5) D3(0,-0.5) D4(0.5,-0.5) D5(1,-0.5) E1(-1,-1) E2(-0.5,-1) E3(0,-1) E4(0.5,-1) E5(1,-1)
Top Overlay:
  circle w0.1: c-1.35,1.35 r0.05
Top Paste:
  drawing of 225 lines, arcs and shapes, not listed
Mechanical 13:
  lines w0.1: -1.245,-1.245 -1.245,1.245 1.245,1.245 1.245,-1.245 -1.245,-1.245
Mechanical 15:
  lines w0.1: -0.5,0 0.5,0 ; 0,-0.5 0,0.5 ; -1.345,-1.345 -1.345,1.345 1.345,1.345 1.345,-1.345 -1.345,-1.345
3D body: height 0.68, standoff 0, extent -1.244,-1.244 1.244,1.244

## SMD50P5X5-2.52X2.52-25V [mm] "Micro SMD, 25-Leads, Body 2.52x2.52mm, Pitch 0.5mm, NSC Recommended"
height 0.68
pads (25):
  round 0.265 smd paste-0.132 mask+0.05: A1(-1,1) A2(-0.5,1) A3(0,1) A4(0.5,1) A5(1,1) B1(-1,0.5) B2(-0.5,0.5) B3(0,0.5) B4(0.5,0.5) B5(1,0.5) C1(-1,0) C2(-0.5,0) C3(0,0) C4(0.5,0) C5(1,0) D1(-1,-0.5) D2(-0.5,-0.5) D3(0,-0.5) D4(0.5,-0.5) D5(1,-0.5) E1(-1,-1) E2(-0.5,-1) E3(0,-1) E4(0.5,-1) E5(1,-1)
Top Overlay:
  circle w0.1: c-1.365,1.365 r0.05
Top Paste:
  drawing of 225 lines, arcs and shapes, not listed
Mechanical 13:
  lines w0.1: -1.26,-1.26 1.26,-1.26 1.26,1.26 -1.26,1.26 -1.26,-1.26
Mechanical 15:
  lines w0.1: -0.5,0 0.5,0 ; 0,-0.5 0,0.5 ; -1.36,-1.36 1.36,-1.36 1.36,1.36 -1.36,1.36 -1.36,-1.36
3D body: height 0.68, standoff 0, extent -1.259,-1.259 1.259,1.259

## SMD50P5X5-2.54X2.54-25V [mm] "Micro SMD, 25-Leads, Body 2.54x2.54mm, Pitch 0.5mm, NSC Recommended"
height 0.68
pads (25):
  round 0.265 smd paste-0.132 mask+0.05: A1(-1,1) A2(-0.5,1) A3(0,1) A4(0.5,1) A5(1,1) B1(-1,0.5) B2(-0.5,0.5) B3(0,0.5) B4(0.5,0.5) B5(1,0.5) C1(-1,0) C2(-0.5,0) C3(0,0) C4(0.5,0) C5(1,0) D1(-1,-0.5) D2(-0.5,-0.5) D3(0,-0.5) D4(0.5,-0.5) D5(1,-0.5) E1(-1,-1) E2(-0.5,-1) E3(0,-1) E4(0.5,-1) E5(1,-1)
Top Overlay:
  circle w0.1: c-1.375,1.375 r0.05
Top Paste:
  drawing of 225 lines, arcs and shapes, not listed
Mechanical 13:
  lines w0.1: -1.27,-1.27 1.27,-1.27 1.27,1.27 -1.27,1.27 -1.27,-1.27
Mechanical 15:
  lines w0.1: -0.5,0 0.5,0 ; 0,-0.5 0,0.5 ; -1.37,-1.37 1.37,-1.37 1.37,1.37 -1.37,1.37 -1.37,-1.37
3D body: height 0.68, standoff 0, extent -1.275,-1.275 1.275,1.275

## SMD50P5X5-2.55X2.52-25V [mm] "Micro SMD, 25-Leads, Body 2.52x2.55mm, Pitch 0.5mm, NSC Recommended"
height 0.68
pads (25):
  round 0.265 smd paste-0.132 mask+0.05: A1(-1,1) A2(-0.5,1) A3(0,1) A4(0.5,1) A5(1,1) B1(-1,0.5) B2(-0.5,0.5) B3(0,0.5) B4(0.5,0.5) B5(1,0.5) C1(-1,0) C2(-0.5,0) C3(0,0) C4(0.5,0) C5(1,0) D1(-1,-0.5) D2(-0.5,-0.5) D3(0,-0.5) D4(0.5,-0.5) D5(1,-0.5) E1(-1,-1) E2(-0.5,-1) E3(0,-1) E4(0.5,-1) E5(1,-1)
Top Overlay:
  circle w0.1: c-1.38,1.365 r0.05
Top Paste:
  drawing of 225 lines, arcs and shapes, not listed
Mechanical 13:
  lines w0.1: -1.275,-1.26 -1.275,1.26 1.275,1.26 1.275,-1.26 -1.275,-1.26
Mechanical 15:
  lines w0.1: -0.5,0 0.5,0 ; 0,-0.5 0,0.5 ; -1.375,-1.36 -1.375,1.36 1.375,1.36 1.375,-1.36 -1.375,-1.36
3D body: height 0.68, standoff 0, extent -1.274,-1.259 1.274,1.259

## SMD50P5X5-2.59X2.77-25V [mm] "Micro SMD, 25-Leads, Body 2.77x2.59mm, Pitch 0.5mm, NSC Recommended"
height 0.68
pads (25):
  round 0.265 smd paste-0.132 mask+0.05: A1(-1,1) A2(-0.5,1) A3(0,1) A4(0.5,1) A5(1,1) B1(-1,0.5) B2(-0.5,0.5) B3(0,0.5) B4(0.5,0.5) B5(1,0.5) C1(-1,0) C2(-0.5,0) C3(0,0) C4(0.5,0) C5(1,0) D1(-1,-0.5) D2(-0.5,-0.5) D3(0,-0.5) D4(0.5,-0.5) D5(1,-0.5) E1(-1,-1) E2(-0.5,-1) E3(0,-1) E4(0.5,-1) E5(1,-1)
Top Overlay:
  circle w0.1: c-1.4,1.49 r0.05
Top Paste:
  drawing of 225 lines, arcs and shapes, not listed
Mechanical 13:
  lines w0.1: -1.295,-1.385 -1.295,1.385 1.295,1.385 1.295,-1.385 -1.295,-1.385
Mechanical 15:
  lines w0.1: -0.5,0 0.5,0 ; 0,-0.5 0,0.5 ; -1.395,-1.485 -1.395,1.485 1.395,1.485 1.395,-1.485 -1.395,-1.485
3D body: height 0.68, standoff 0, extent -1.3,-1.385 1.3,1.385

## SMD50P5X6-2.47X2.97-30V [mm] "Micro SMD, 30-Leads, Body 2.97x2.47mm, Pitch 0.5mm, NSC Recommended"
height 0.68
pads (30):
  round 0.265 smd paste-0.132 mask+0.05: A1(-1,1.25) A2(-0.5,1.25) A3(0,1.25) A4(0.5,1.25) A5(1,1.25) B1(-1,0.75) B2(-0.5,0.75) B3(0,0.75) B4(0.5,0.75) B5(1,0.75) C1(-1,0.25) C2(-0.5,0.25) C3(0,0.25) C4(0.5,0.25) C5(1,0.25) D1(-1,-0.25) D2(-0.5,-0.25) D3(0,-0.25) D4(0.5,-0.25) D5(1,-0.25) E1(-1,-0.75) E2(-0.5,-0.75) E3(0,-0.75) E4(0.5,-0.75) E5(1,-0.75) F1(-1,-1.25) F2(-0.5,-1.25) F3(0,-1.25) F4(0.5,-1.25) F5(1,-1.25)
Top Overlay:
  circle w0.1: c-1.34,1.59 r0.05
Top Paste:
  drawing of 270 lines, arcs and shapes, not listed
Mechanical 13:
  lines w0.1: -1.235,-1.485 -1.235,1.485 1.235,1.485 1.235,-1.485 -1.235,-1.485
Mechanical 15:
  lines w0.1: -0.5,0 0.5,0 ; 0,-0.5 0,0.5 ; -1.335,-1.585 -1.335,1.585 1.335,1.585 1.335,-1.585 -1.335,-1.585
3D body: height 0.68, standoff 0, extent -1.235,-1.49 1.235,1.49

## SMD50P5X6-2.55X2.95-30V [mm] "Micro SMD, 30-Leads, Body 2.95x2.55mm, Pitch 0.5mm, NSC Recommended"
height 0.68
pads (30):
  round 0.265 smd paste-0.132 mask+0.05: A1(-1,1.25) A2(-0.5,1.25) A3(0,1.25) A4(0.5,1.25) A5(1,1.25) B1(-1,0.75) B2(-0.5,0.75) B3(0,0.75) B4(0.5,0.75) B5(1,0.75) C1(-1,0.25) C2(-0.5,0.25) C3(0,0.25) C4(0.5,0.25) C5(1,0.25) D1(-1,-0.25) D2(-0.5,-0.25) D3(0,-0.25) D4(0.5,-0.25) D5(1,-0.25) E1(-1,-0.75) E2(-0.5,-0.75) E3(0,-0.75) E4(0.5,-0.75) E5(1,-0.75) F1(-1,-1.25) F2(-0.5,-1.25) F3(0,-1.25) F4(0.5,-1.25) F5(1,-1.25)
Top Overlay:
  circle w0.1: c-1.38,1.58 r0.05
Top Paste:
  drawing of 270 lines, arcs and shapes, not listed
Mechanical 13:
  lines w0.1: -1.275,-1.475 -1.275,1.475 1.275,1.475 1.275,-1.475 -1.275,-1.475
Mechanical 15:
  lines w0.1: -0.5,0 0.5,0 ; 0,-0.5 0,0.5 ; -1.375,-1.575 -1.375,1.575 1.375,1.575 1.375,-1.575 -1.375,-1.575
3D body: height 0.68, standoff 0, extent -1.274,-1.474 1.274,1.474